# Altium schematic symbol library TECAP.SchLib: 5 symbols
Pins are listed as number, name and electrical type; pins without a type are passive.

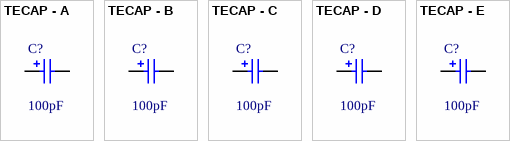
[diagram p0: symbols TECAP - A to TECAP - E]

## TECAP - A
designator C?  value 100pF
Solid Tantalum Chip Capacitor, Standard T491 Series - Industrial Grade; Voltage: 10V; Published: 17-Jul-2002; LatestRevisionDate: 19-Mar-2004; LatestRevisionNote: Silkscreen dimensions re-sized.; DatasheetDocument: Mar-2001; PackageDocument: Mar-2001; PackageReference: A; Publisher: Altium Limited; Code_JEITA: 3216-18; ComponentLink1Description: Manufacturer Link; ComponentLink1URL: http://www.kemet.com/; ComponentLink2Description: Datasheet; ComponentLink2URL: http://www.kemet.com/kemet/web/homepage/kechome.nsf/vapubfilesname/F3102TA.pdf/$file/F3102TA.pdf
footprint A (Capacitor, SM Tantalum; Body 3.2 x 1.6 mm (LxW typ))
simulation model CAP (Capacitor)
signal-integrity model T491A
pins: 1, 2
1 alternate drawing of the same symbol

## TECAP - B
designator C?  value 100pF
Solid Tantalum Chip Capacitor, Standard T491 Series - Industrial Grade; Voltage: 10V; Published: 17-Jul-2002; LatestRevisionDate: 19-Mar-2004; LatestRevisionNote: Silkscreen dimensions re-sized.; DatasheetDocument: Mar-2001; PackageDocument: Mar-2001; PackageReference: B; Publisher: Altium Limited; Code_JEITA: 3528-21; ComponentLink1Description: Manufacturer Link; ComponentLink1URL: http://www.kemet.com/; ComponentLink2Description: Datasheet; ComponentLink2URL: http://www.kemet.com/kemet/web/homepage/kechome.nsf/vapubfilesname/F3102TA.pdf/$file/F3102TA.pdf
footprint B (Capacitor, SM Tantalum; Body 3.5 x 2.8 mm (LxW typ))
simulation model CAP (Capacitor)
signal-integrity model T491B
pins: 1, 2
1 alternate drawing of the same symbol

## TECAP - C
designator C?  value 100pF
Solid Tantalum Chip Capacitor, Standard T491 Series - Industrial Grade; Voltage: 10V; Published: 17-Jul-2002; LatestRevisionDate: 19-Mar-2004; LatestRevisionNote: Silkscreen dimensions re-sized.; DatasheetDocument: Mar-2001; PackageDocument: Mar-2001; PackageReference: C; Publisher: Altium Limited; Code_JEITA: 6032-28; ComponentLink1Description: Manufacturer Link; ComponentLink1URL: http://www.kemet.com/; ComponentLink2Description: Datasheet; ComponentLink2URL: http://www.kemet.com/kemet/web/homepage/kechome.nsf/vapubfilesname/F3102TA.pdf/$file/F3102TA.pdf
footprint C (Capacitor, SM Tantalum; Body 6.0 x 3.2 mm (LxW typ))
simulation model CAP (Capacitor)
signal-integrity model T491C
pins: 1, 2
1 alternate drawing of the same symbol

## TECAP - D
designator C?  value 100pF
Solid Tantalum Chip Capacitor, Standard T491 Series - Industrial Grade; Voltage: 10V; Published: 17-Jul-2002; LatestRevisionDate: 19-Mar-2004; LatestRevisionNote: Silkscreen dimensions re-sized.; DatasheetDocument: Mar-2001; PackageDocument: Mar-2001; PackageReference: D; Publisher: Altium Limited; Code_JEITA: 7343-31; ComponentLink1Description: Manufacturer Link; ComponentLink1URL: http://www.kemet.com/; ComponentLink2Description: Datasheet; ComponentLink2URL: http://www.kemet.com/kemet/web/homepage/kechome.nsf/vapubfilesname/F3102TA.pdf/$file/F3102TA.pdf
footprint D (Capacitor, SM Tantalum; Body 7.3 x 4.3 mm (LxW typ))
simulation model CAP (Capacitor)
signal-integrity model T491D
pins: 1, 2
1 alternate drawing of the same symbol

## TECAP - E
designator C?  value 100pF
Solid Tantalum Chip Capacitor, T510 Series - Ultra-Low ESR; Voltage: 10V; Published: 17-Jul-2002; LatestRevisionDate: 19-Mar-2004; LatestRevisionNote: Silkscreen dimensions re-sized.; DatasheetDocument: Mar-2001; PackageDocument: Mar-2001; PackageReference: E; Publisher: Altium Limited; Code_JEITA: 7260-38; ComponentLink1Description: Manufacturer Link; ComponentLink1URL: http://www.kemet.com/; ComponentLink2Description: Datasheet; ComponentLink2URL: http://www.kemet.com/kemet/web/homepage/kechome.nsf/vapubfilesname/F3102TA.pdf/$file/F3102TA.pdf
footprint E (Capacitor, SM Tantalum; Body 7.3 x 6.0 mm (LxW typ))
simulation model CAP (Capacitor)
signal-integrity model T510E
pins: 1, 2
1 alternate drawing of the same symbol